# EAGLE library part SWITCH-2CH-6P (library Discreter)
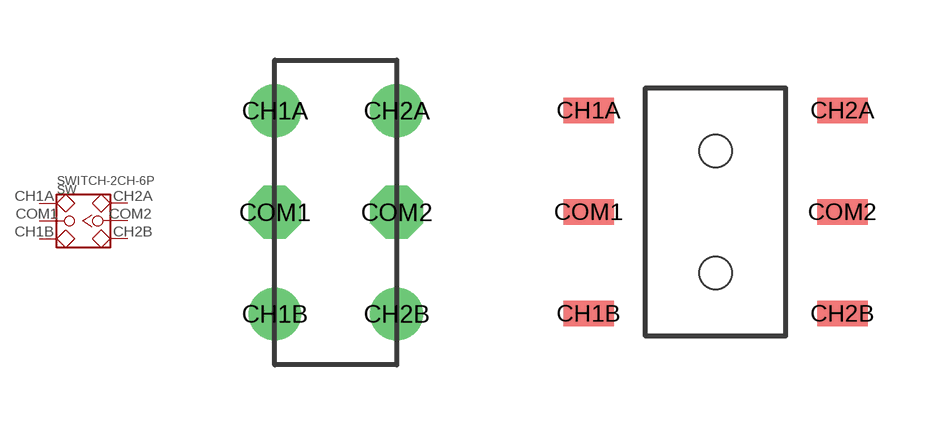
[diagram p8: symbol with the pads of 6P-LEADED-2CH-2.54-3.0X7.6; footprints 6P-LEADED-2CH-2.54-3.0X7.6, 6P-SMD-2CH-2.54-3.5X6.2]

Designator prefix SW

## SWITCH-2CH-6P-DIP  [6P-LEADED-2CH-2.54-3.0X7.6]
CH1A  CH1A
CH1B  CH1B
CH2A  CH2A
CH2B  CH2B
COM1  COM1
COM2  COM2

## SWITCH-2CH-6P-SMD  [6P-SMD-2CH-2.54-3.5X6.2]
Pads as for 6P-LEADED-2CH-2.54-3.0X7.6

## Footprint 6P-LEADED-2CH-2.54-3.0X7.6 (pad centres in mm)
drill 0.813 pad 1.27 round: CH1A -1.524,2.54; CH1B -1.524,-2.54; CH2A 1.524,2.54; CH2B 1.524,-2.54
drill 0.813 pad 1.27 octagon: COM1 -1.524,0; COM2 1.524,0

## Footprint 6P-SMD-2CH-2.54-3.5X6.2 (pad centres in mm)
smd 1.27 x 0.635: CH1A -3.175,2.54; CH1B -3.175,-2.54; CH2A 3.175,2.54; CH2B 3.175,-2.54; COM1 -3.175,0; COM2 3.175,0
hole 0.813 at 0,1.524
hole 0.813 at 0,-1.524